# Altium schematic symbol library LCD.SchLib: 1 symbol
Pins are listed as number, name and electrical type; pins without a type are passive.

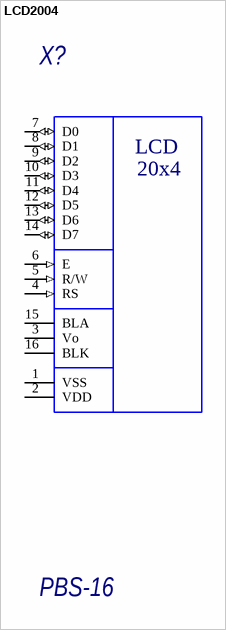
[diagram p0: symbol LCD2004]

## LCD2004
designator X?, comment PBS-16
Плата ЖКИ; ComponentDescription: Плата индикатора LCD2004, PBS-16; ComponentType: Плата индикатора LCD2004
footprint LCD2004-TYPE1
footprint LCD2004-TYPE3
footprint LCD2004-TYPE2
footprint LCD2004-TYPE4
footprint LCD2004-TYPE1
pins: 1 VSS (power), 2 VDD (power), 3 Vo (power), 4 RS (in), 5 R/W (in), 6 E (in), 7 D0 (io), 8 D1 (io), 9 D2 (io), 10 D3 (io), 11 D4 (io), 12 D5 (io), 13 D6 (io), 14 D7 (io), 15 BLA (power), 16 BLK (power)
1 alternate drawing of the same symbol
text: LCD; 20x4